# EAGLE library part PIC18F2XK22 (library GadgetFactory_v1)
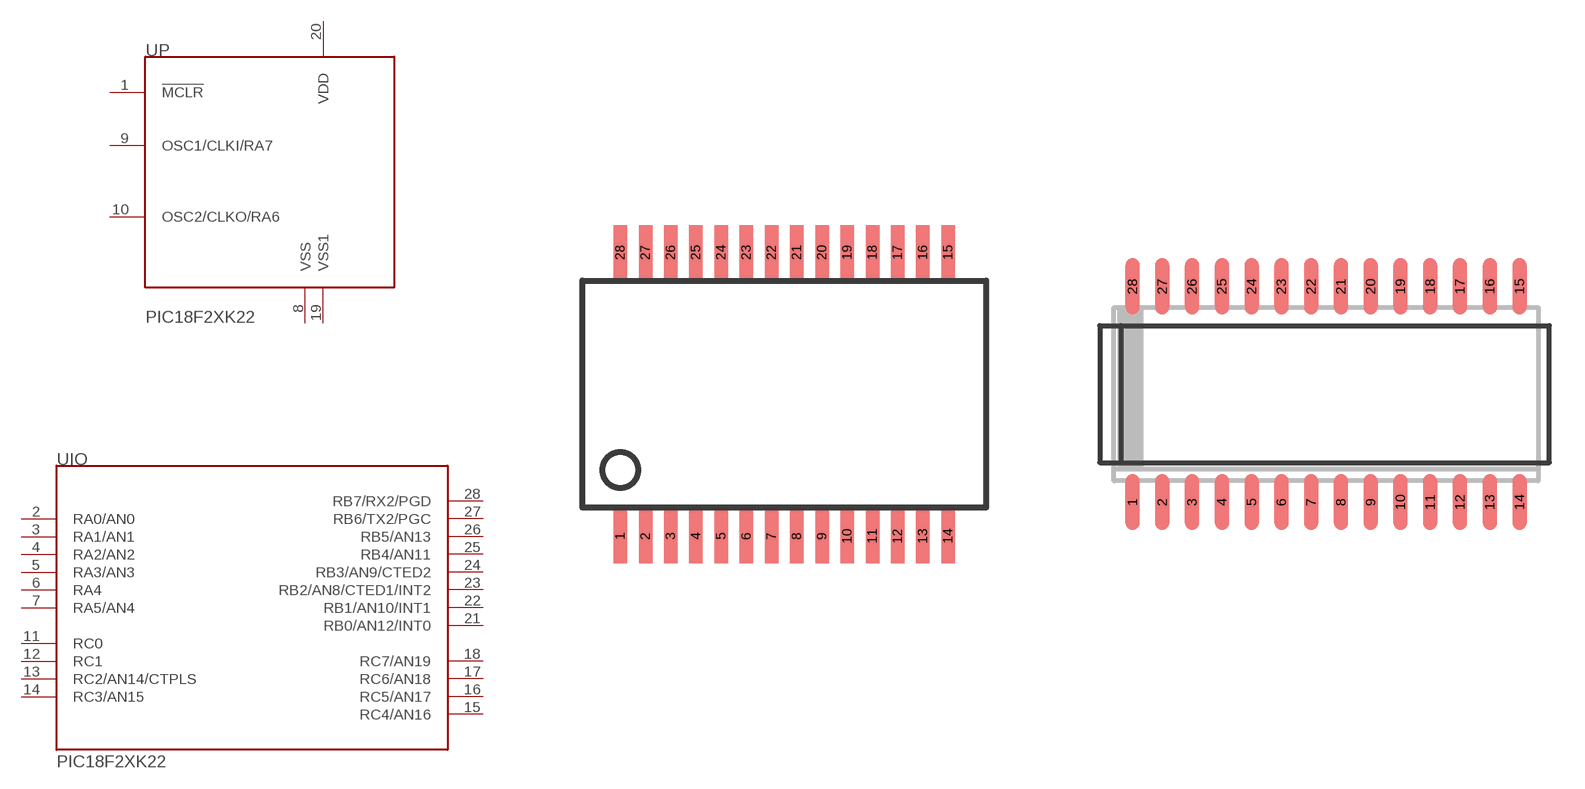
[diagram p39: symbol with the pads of SSOP28; footprints SSOP28, SO28W]

Designator prefix U; gates P=PIC18F2XK20_CTL IO=PIC18F2XK22_IO

## PIC18F2XK22SS  [SSOP28]
1  P:!MCLR  in
2  IO:RA0/AN0
3  IO:RA1/AN1
4  IO:RA2/AN2
5  IO:RA3/AN3
6  IO:RA4
7  IO:RA5/AN4
8  P:VSS  pwr
9  P:OSC1/CLKI/RA7
10  P:OSC2/CLKO/RA6
11  IO:RC0
12  IO:RC1
13  IO:RC2/AN14/CTPLS
14  IO:RC3/AN15
15  IO:RC4/AN16
16  IO:RC5/AN17
17  IO:RC6/AN18
18  IO:RC7/AN19
19  P:VSS1  pwr
20  P:VDD  pwr
21  IO:RB0/AN12/INT0
22  IO:RB1/AN10/INT1
23  IO:RB2/AN8/CTED1/INT2
24  IO:RB3/AN9/CTED2
25  IO:RB4/AN11
26  IO:RB5/AN13
27  IO:RB6/TX2/PGC
28  IO:RB7/RX2/PGD

## PIC18F2XK22SO  [SO28W]
Pads as for SSOP28

## Footprint SSOP28 (pad centres in mm)
Small Shrink Outline Package
smd 0.348 x 1.397: 1 -4.225,-3.656; 2 -3.575,-3.656; 3 -2.925,-3.656; 4 -2.275,-3.656; 5 -1.625,-3.656; 6 -0.975,-3.656; 7 -0.325,-3.656; 8 0.325,-3.656; 9 0.975,-3.656; 10 1.625,-3.656; 11 2.275,-3.656; 12 2.925,-3.656; 13 3.575,-3.656; 14 4.225,-3.656; 15 4.225,3.656; 16 3.575,3.656; 17 2.925,3.656; 18 2.275,3.656; 19 1.625,3.656; 20 0.975,3.656; 21 0.325,3.656; 22 -0.325,3.656; 23 -0.975,3.656; 24 -1.625,3.656; 25 -2.275,3.656; 26 -2.925,3.656; 27 -3.575,3.656; 28 -4.225,3.656

## Footprint SO28W (pad centres in mm)
SMALL OUTLINE INTEGRATED CIRCUIT wide body 7.5 mm/JEDEC MO-119AB Source: http://www.atmel.com/dyn/resources/prod_documents/doc4126.pdf
smd 0.6 x 2.4: 1 -8.255,-4.6; 2 -6.985,-4.6; 3 -5.715,-4.6; 4 -4.445,-4.6; 5 -3.175,-4.6; 6 -1.905,-4.6; 7 -0.635,-4.6; 8 0.635,-4.6; 9 1.905,-4.6; 10 3.175,-4.6; 11 4.445,-4.6; 12 5.715,-4.6; 13 6.985,-4.6; 14 8.255,-4.6; 15 8.255,4.6; 16 6.985,4.6; 17 5.715,4.6; 18 4.445,4.6; 19 3.175,4.6; 20 1.905,4.6; 21 0.635,4.6; 22 -0.635,4.6; 23 -1.905,4.6; 24 -3.175,4.6; 25 -4.445,4.6; 26 -5.715,4.6; 27 -6.985,4.6; 28 -8.255,4.6